# Altium footprint library L DIP.PcbLib: 7 footprints
Each footprint in its own frame and in the unit in brackets; x right, y up, seen from the top. Pads: shape width x height; smd on the part's side, far side on the other; paste and mask are expansions set on the pad; w line width, h text height; cw(c..) or ccw(c..) is an arc to the next point about the centre after c.
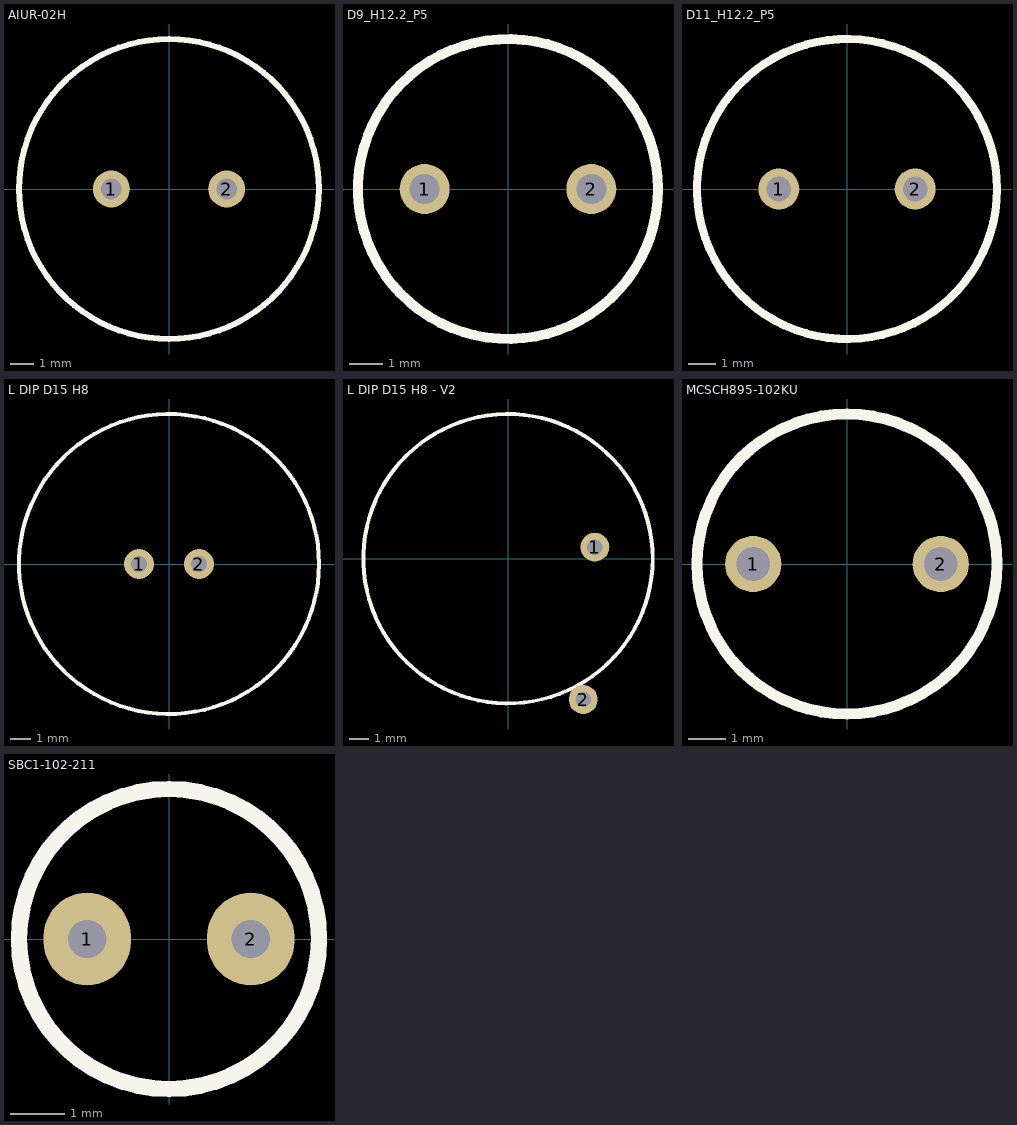
[diagram p0: the footprints below, top view; thin cyan lines are the x and y axes]

## AIUR-02H [mm] "AIUR-02H-681K"
pads (2):
  round 1.6 hole 0.9: 1(-2.5,0) 2(2.5,0)
Top Overlay:
  circle w0.254: c0,0 r6.5
3D body: height 15, standoff 0, extent -6.499,-6.499 6.499,6.499

## D9_H12.2_P5 [mm] "Diameter 9mm, Height 12.2mm, Pitch 5mm, Pin Diameter 0.7mm"
pads (2):
  round 1.5 hole 0.9: 1(-2.5,0) 2(2.5,0)
Top Overlay:
  circle w0.3: c0,0 r4.5
3D body: height 12.2, standoff 0, extent -4.5,-4.5 4.5,4.5

## D11_H12.2_P5 [mm] "Diameter 11mm, Height 12.2mm, Pitch 5mm, Pin Diameter 0.7mm"
pads (2):
  round 1.5 hole 0.9: 1(-2.5,0) 2(2.5,0)
Top Overlay:
  circle w0.3: c0,0 r5.5
3D body: height 12.2, standoff 0, extent -5.5,-5.5 5.5,5.5

## L DIP D15 H8 [mm] "L DIP D15 H8"
height 8
pads (2):
  round 1.5 hole 0.8: 1(-1.5,0) 2(1.5,0)
Top Overlay:
  circle w0.2: c0,0 r7.5
3D body: height 12, standoff 0, extent -7.499,-7.499 7.499,7.499

## L DIP D15 H8 - V2 [mm] "L DIP D15 H8-  V2"
height 8
pads (2):
  round 1.5 hole 0.8: 1(4.5,0.6) 2(3.9,-7.3)
Top Overlay:
  circle w0.2: c0,0 r7.5
3D body "L DIP D15.STEP": height 5, standoff 0, extent -7.498,-7.437 7.398,7.47

## MCSCH895-102KU [mm] "MCSCH895-102KU"
pads (2):
  round 1.5 hole 0.9: 1(-2.5,0) 2(2.5,0)
Top Overlay:
  circle w0.3: c0,0 r4
3D body: height 9.5, standoff 0, extent -3.999,-3.999 3.999,3.999

## SBC1-102-211 [mm] "SBC1-102-211"
pads (2):
  oval 1.6x1.7 hole 0.7: 1(-1.5,0) 2(1.5,0)
Top Overlay:
  circle w0.3: c0,0 r2.75